# Altium schematic symbol library ISO ADUM141D1BRQZ.Schlib: 1 symbol
Pins are listed as number, name and electrical type; pins without a type are passive.

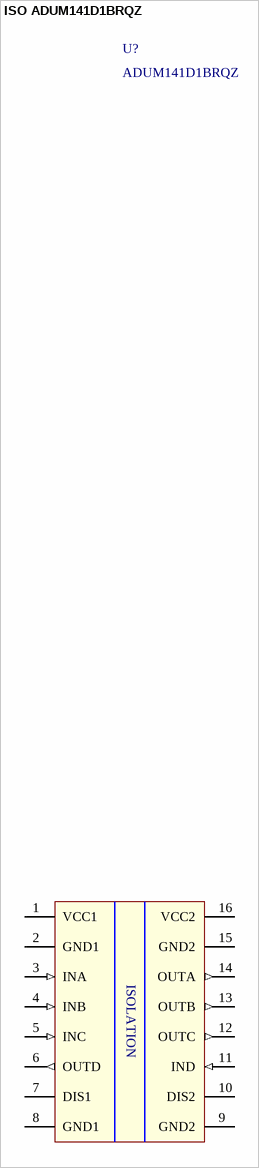
[diagram p0: symbol ISO ADUM141D1BRQZ]

## ISO ADUM141D1BRQZ
designator U?, comment ADUM141D1BRQZ
Digital Isolator CMOS 4-CH 150Mbps 16-Pin QSOP T/R
footprint SOP64P600X175-16N (SOP, 16-Leads, Body 4.90x3.91mm, Pitch 0.64mm, IPC Medium Density)
pins: 1 VCC1 (power), 2 GND1 (power), 3 INA (in), 4 INB (in), 5 INC (in), 6 OUTD (out), 7 DIS1, 8 GND1 (power), 9 GND2 (power), 10 DIS2, 11 IND (in), 12 OUTC (out), 13 OUTB (out), 14 OUTA (out), 15 GND2 (power), 16 VCC2 (power)
text: ISOLATION